# Altium footprint library TZ03_B_.PcbLib: 1 footprints
Each footprint in its own frame and in the unit in brackets; x right, y up, seen from the top. Pads: shape width x height; smd on the part's side, far side on the other; paste and mask are expansions set on the pad; w line width, h text height; cw(c..) or ccw(c..) is an arc to the next point about the centre after c.
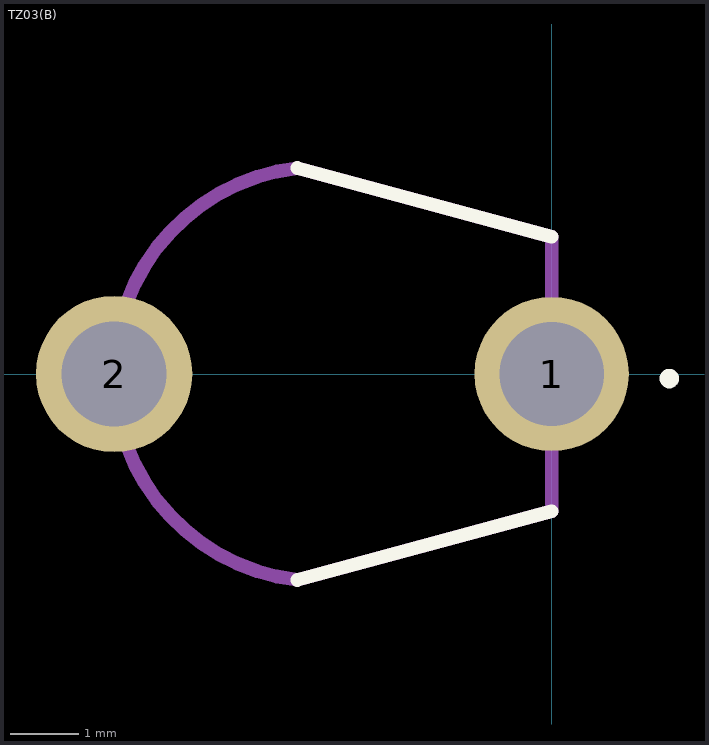
[diagram p0: the footprint, top view; thin cyan lines are the x and y axes]

## TZ03(B) [mm]
pads (2):
  round 2.25 hole 1.52: 1(0,0)
  round 2.28 / inner round 2.25 / far side round 2.25 hole 1.53: 2(-6.375,0)
Top Overlay:
  circle w0.2: c1.714,-0.066 r0.042
  lines w0.2: -3.707,-3 0,-2 ; -3.707,3 0,2
Mechanical 15:
  lines w0.2: -3.707,-3 cw(c-3.354,0) -3.707,3 0,2 0,-2 -3.707,-3